# Altium schematic symbol library Turbidity D-A board.SchLib: 1 symbol
Pins are listed as number, name and electrical type; pins without a type are passive.

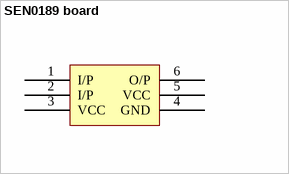
[diagram p0: symbol SEN0189 board]

## SEN0189 board
designator SB1, comment Sen0189 board
pins: 1 I/P , 2 I/P, 3 VCC, 4 GND, 5 VCC, 6 O/P